# EAGLE library part CHB75W (library temp_library)
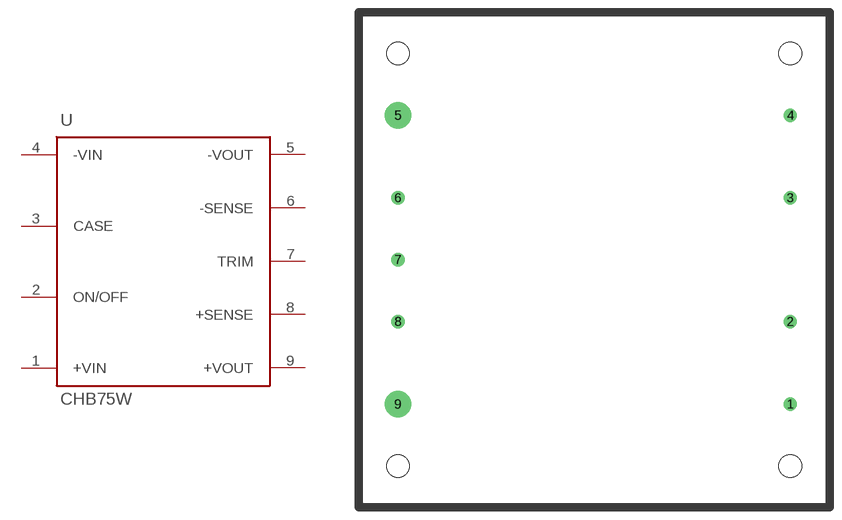
[diagram p3: symbol with the pads of CHB75W; footprint CHB75W]

Designator prefix -

## CHB75W  [CHB75W]
1  +VIN  pwr
2  ON/OFF  in
3  CASE  in
4  -VIN  pwr
5  -VOUT  pwr
6  -SENSE
7  TRIM
8  +SENSE
9  +VOUT  pwr

## Footprint CHB75W (pad centres in mm)
drill 1.1: 1 24.13,-17.78; 2 24.13,-7.62; 3 24.13,7.62; 4 24.13,17.78; 6 -24.13,7.62; 7 -24.13,0; 8 -24.13,-7.62
drill 2.2: 5 -24.13,17.78; 9 -24.13,-17.78
hole 2.8 at 24.13,25.4
hole 2.8 at -24.13,25.4
hole 2.8 at 24.13,-25.4
hole 2.8 at -24.13,-25.4